# EAGLE library part MRF24WB0 (library mullac)
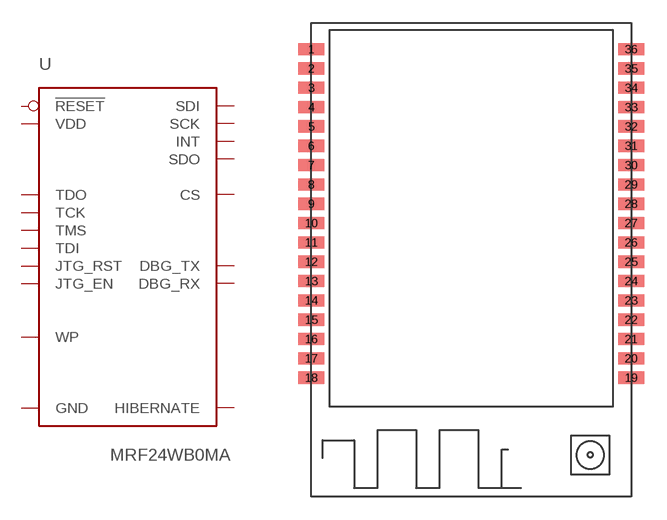
[diagram p22: symbol with the pads of MRF24WB0MA; footprint MRF24WB0MA]

Designator prefix -

## MRF24WB0  [MRF24WB0MA]
1  GND
3  TDO
4  TCK
5  TMS
6  TDI
7  !RESET
9  JTG_RST
10  GND
16  WP
17  VDD
18  GND
19  GND
20  HIBERNATE
21  JTG_EN
23  CS
25  GND
26  DBG_RX
27  DBG_TX
28  GND
29  VDD
30  GND
32  SDO
33  INT
34  SCK
35  SDI
36  GND

## Footprint MRF24WB0MA (pad centres in mm)
smd 1.7 x 0.8: 1 -10.5,11.43; 2 -10.5,10.16; 3 -10.5,8.89; 4 -10.5,7.62; 5 -10.5,6.35; 6 -10.5,5.08; 7 -10.5,3.81; 8 -10.5,2.54; 9 -10.5,1.27; 10 -10.5,0; 11 -10.5,-1.27; 12 -10.5,-2.54; 13 -10.5,-3.81; 14 -10.5,-5.08; 15 -10.5,-6.35; 16 -10.5,-7.62; 17 -10.5,-8.89; 18 -10.5,-10.16; 19 10.5,-10.16; 20 10.5,-8.89; 21 10.5,-7.62; 22 10.5,-6.35; 23 10.5,-5.08; 24 10.5,-3.81; 25 10.5,-2.54; 26 10.5,-1.27; 27 10.5,0; 28 10.5,1.27; 29 10.5,2.54; 30 10.5,3.81; 31 10.5,5.08; 32 10.5,6.35; 33 10.5,7.62; 34 10.5,8.89; 35 10.5,10.16; 36 10.5,11.43